# Altium schematic symbol library Trans_Diodes_2N7002W-7-F_eec.SchLib: 1 symbol
Pins are listed as number, name and electrical type; pins without a type are passive.

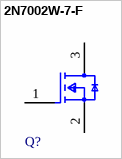
[diagram p0: symbol 2N7002W-7-F]

## 2N7002W-7-F
designator Q?  (value not drawn)
pins: 1 G, 2 S, 3 D